# Altium footprint library arduino_1x6_header.PcbLib: 1 footprints
Each footprint in its own frame and in the unit in brackets; x right, y up, seen from the top. Pads: shape width x height; smd on the part's side, far side on the other; paste and mask are expansions set on the pad; w line width, h text height; cw(c..) or ccw(c..) is an arc to the next point about the centre after c.
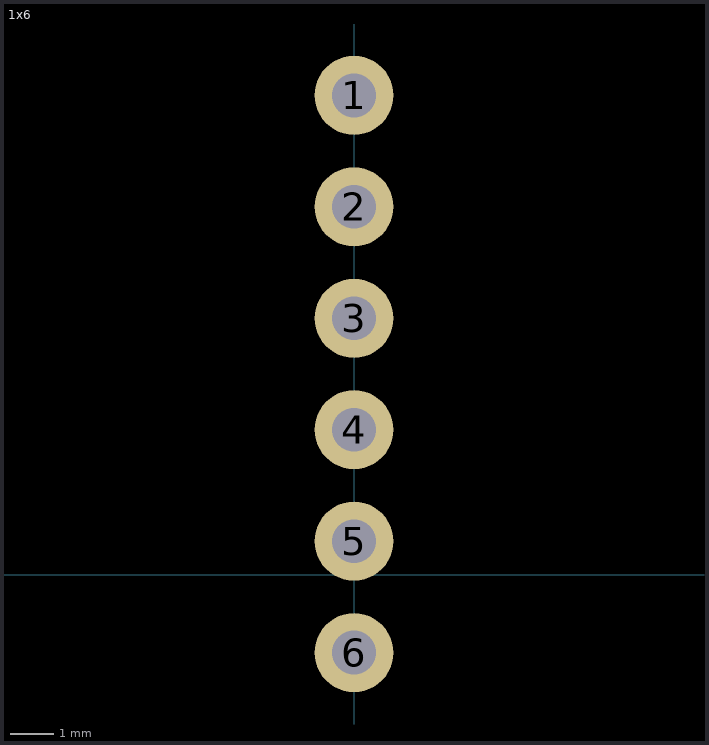
[diagram p0: the footprint, top view; thin cyan lines are the x and y axes]

## 1x6 [mm]
pads (6):
  round 1.8 hole 1: 1(0,10.922) 2(0,8.382) 3(0,5.842) 4(0,3.302) 5(0,0.762) 6(0,-1.778)